# EAGLE library part Z86E04 (library wheat)
ZILOG Z86E04 MICRO
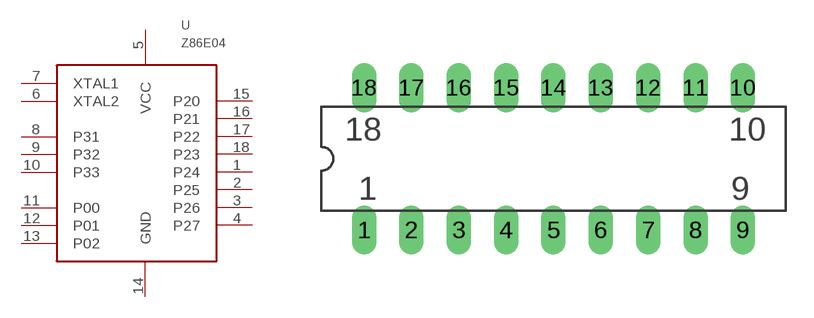
[diagram p7: symbol with the pads of DIP18; footprint DIP18]

Designator prefix U

## Z86E04  [DIP18]
1  P24
2  P25
3  P26
4  P27
5  VCC  pwr
6  XTAL2  pas
7  XTAL1  pas
8  P31
9  P32
10  P33
11  P00
12  P01
13  P02
14  GND  pwr
15  P20
16  P21
17  P22
18  P23

## Footprint DIP18 (pad centres in mm)
DIP 18 .3LS
drill 0.813 long: 1 0,0; 2 2.54,0; 3 5.08,0; 4 7.62,0; 5 10.16,0; 6 12.7,0; 7 15.24,0; 8 17.78,0; 9 20.32,0; 10 20.32,7.62; 11 17.78,7.62; 12 15.24,7.62; 13 12.7,7.62; 14 10.16,7.62; 15 7.62,7.62; 16 5.08,7.62; 17 2.54,7.62; 18 0,7.62